# EAGLE library part DIP-SW-10 (library agsys-valvecontrol)
10-position DIP Switch
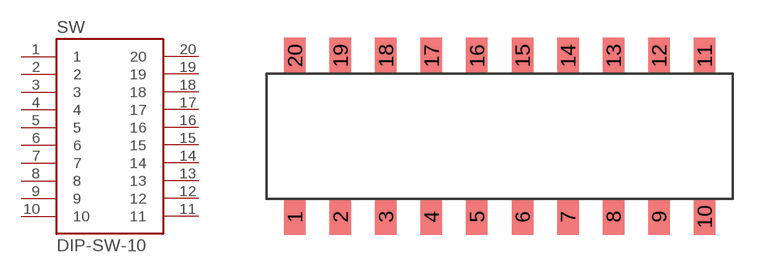
[diagram p7: symbol with the pads of DIP-SW-10; footprint DIP-SW-10]

Designator prefix SW

## DIP-SW-10  [DIP-SW-10]
1  1
2  2
3  3
4  4
5  5
6  6
7  7
8  8
9  9
10  10
11  11
12  12
13  13
14  14
15  15
16  16
17  17
18  18
19  19
20  20

## Footprint DIP-SW-10 (pad centres in mm)
10-pos DIP Switch 2.54mm pitch
smd 1.2 x 2: 1 -11.43,-4.5; 2 -8.89,-4.5; 3 -6.35,-4.5; 4 -3.81,-4.5; 5 -1.27,-4.5; 6 1.27,-4.5; 7 3.81,-4.5; 8 6.35,-4.5; 9 8.89,-4.5; 10 11.43,-4.5; 11 11.43,4.5; 12 8.89,4.5; 13 6.35,4.5; 14 3.81,4.5; 15 1.27,4.5; 16 -1.27,4.5; 17 -3.81,4.5; 18 -6.35,4.5; 19 -8.89,4.5; 20 -11.43,4.5